# Altium schematic symbol library LM1117.SchLib: 1 symbol
Pins are listed as number, name and electrical type; pins without a type are passive.

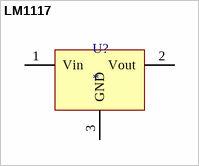
[diagram p0: symbol LM1117]

## LM1117
designator U?
Manufacturer: National Semiconductor; Part No.: LM1117; Vendor: Mouser; Price Est.: $1.35
footprint SOT223 (TAB to Pin2) (SOT223 (TAB is connected to Pin2))
pins: 1 Vin, 2 Vout, 3 GND